# Altium schematic symbol library aiskylab-14Connectors-08Board2BoardCon.SchLib: 1 symbol
Pins are listed as number, name and electrical type; pins without a type are passive.

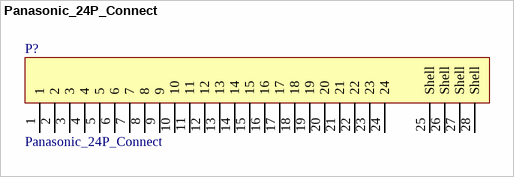
[diagram p0: symbol Panasonic_24P_Connect]

## Panasonic_24P_Connect
designator P?
Panasonic Godern Figner Connector 24 Pos
footprint Panasonic_24P_Connect
pins: 1, 2, 3, 4, 5, 6, 7, 8, 9, 10, 11, 12, 13, 14, 15, 16, 17, 18, 19, 20, 21, 22, 23, 24, 25 Shell, 26 Shell, 27 Shell, 28 Shell